# Altium footprint library Bran.PcbLib: 77 footprints (part 3 of 5)
Each footprint in its own frame and in the unit in brackets; x right, y up, seen from the top. Pads: shape width x height; smd on the part's side, far side on the other; paste and mask are expansions set on the pad; w line width, h text height; cw(c..) or ccw(c..) is an arc to the next point about the centre after c.
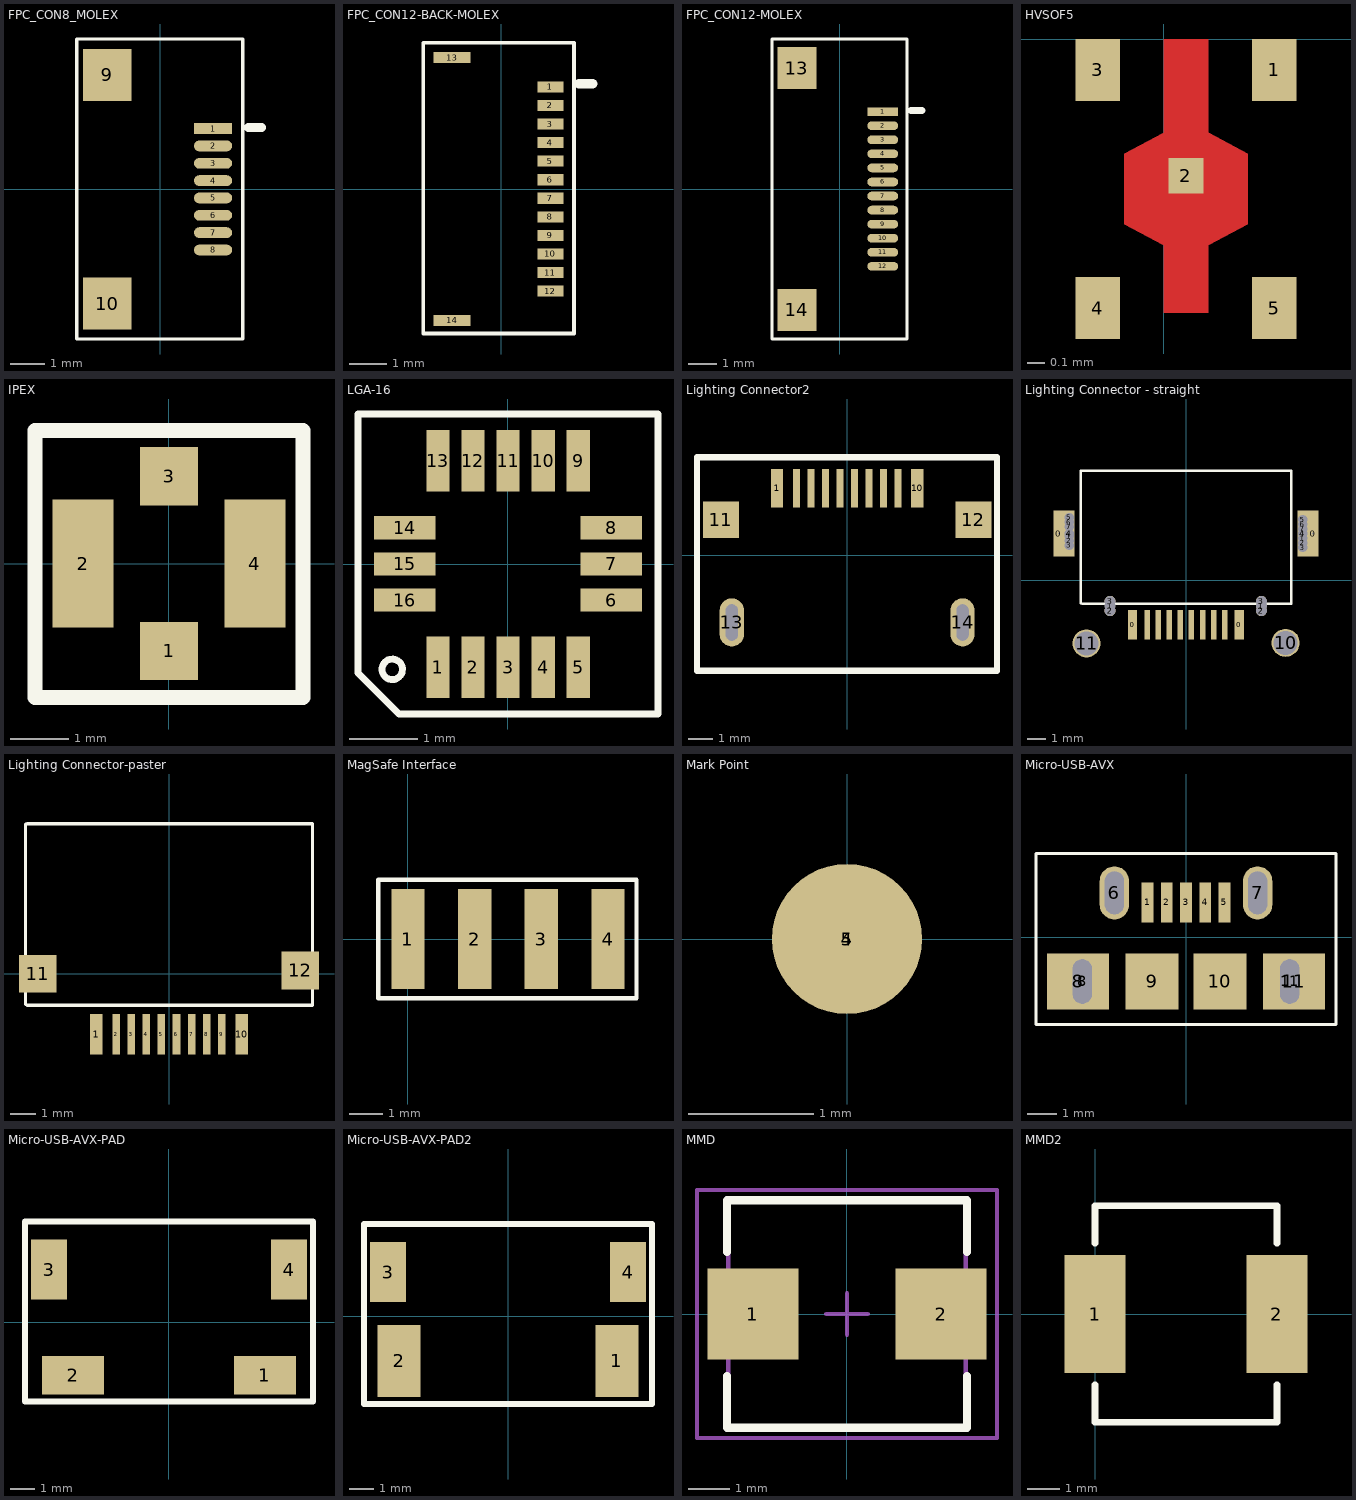
[diagram p2: the footprints below, top view; thin cyan lines are the x and y axes]

## FPC_CON8_MOLEX [mm]
pads (10):
  rect 1.1x0.31 smd: 1(1.525,1.75)
  oval 1.1x0.31 smd: 2(1.525,1.25) 3(1.525,0.75) 4(1.525,0.25) 5(1.525,-0.25) 6(1.525,-0.75) 7(1.525,-1.25) 8(1.525,-1.75)
  rect 1.4x1.5 smd: 9(-1.525,3.3) 10(-1.525,-3.3)
Top Overlay:
  lines w0.1: -2.413,-4.318 2.385,-4.318 2.385,4.334 -2.413,4.334 -2.413,-4.318
  lines w0.254: 2.54,1.778 2.921,1.778

## FPC_CON12-BACK-MOLEX [mm]
pads (14):
  rect 0.7x0.3 smd: 1(1.325,2.75) 2(1.325,2.25) 3(1.325,1.75) 4(1.325,1.25) 5(1.325,0.75) 6(1.325,0.25) 7(1.325,-0.25) 8(1.325,-0.75) 9(1.325,-1.25) 10(1.325,-1.75) 11(1.325,-2.25) 12(1.325,-2.75)
  rect 1x0.3 smd: 13(-1.325,3.54) 14(-1.325,-3.54)
Top Overlay:
  lines w0.1: -2.104,-3.893 1.96,-3.893 1.96,3.937 -2.104,3.937 -2.104,-3.893
  lines w0.254: 2.087,2.838 2.468,2.838
3D body: height 1, standoff 0, extent -1.927,-3.792 1.777,3.792

## FPC_CON12-MOLEX [mm]
pads (14):
  rect 1.1x0.31 smd: 1(1.525,2.75)
  oval 1.1x0.31 smd: 2(1.525,2.25) 3(1.525,1.75) 4(1.525,1.25) 5(1.525,0.75) 6(1.525,0.25) 7(1.525,-0.25) 8(1.525,-0.75) 9(1.525,-1.25) 10(1.525,-1.75) 11(1.525,-2.25) 12(1.525,-2.75)
  rect 1.4x1.5 smd: 13(-1.525,4.3) 14(-1.525,-4.3)
Top Overlay:
  lines w0.1: -2.413,-5.334 2.385,-5.334 2.385,5.334 -2.413,5.334 -2.413,-5.334
  lines w0.254: 2.54,2.794 2.921,2.794

## HVSOF5 [mm]
pads (5):
  rect 0.25x0.35 smd: 1(0.625,-0.175) 3(-0.375,-0.175) 4(-0.375,-1.525) 5(0.625,-1.525)
  rect 0.2x0.2 smd: 2(0.125,-0.775)
Top Layer:
  region: -0.225,-1.05 0,-1.17 0,-1.55 0.25,-1.55 0.25,-1.17 0.475,-1.05 0.475,-0.65 0.254,-0.53 0.25,-0.53 0.25,0 0,0 0,-0.53 -0.225,-0.65
Top Paste:
  region: -0.225,-1.05 0,-1.17 0,-1.55 0.25,-1.55 0.25,-1.17 0.475,-1.05 0.475,-0.65 0.254,-0.53 0.25,-0.53 0.25,0 0,0 0,-0.53 -0.225,-0.65
Top Solder:
  region: -0.225,-1.05 0,-1.17 0,-1.55 0.25,-1.55 0.25,-1.17 0.475,-1.05 0.475,-0.65 0.254,-0.53 0.25,-0.53 0.25,0 0,0 0,-0.53 -0.225,-0.65

## IPEX [mm]
pads (4):
  rect 1x1 smd: 1(0,-1.5) 3(0,1.5)
  rect 1.05x2.2 smd: 2(-1.475,0) 4(1.475,0)
Top Overlay:
  lines w0.254: -2.3,2.286 -2.3,-2.3 2.3,-2.3 2.3,2.286 -2.286,2.286

## LGA-16 [mm]
pads (16):
  rect 0.34x0.9 smd: 1(-1.029,-1.514) 2(-0.514,-1.514) 3(0.001,-1.514) 4(0.516,-1.514) 5(1.031,-1.514) 9(1.031,1.514) 10(0.516,1.514) 11(0.001,1.514) 12(-0.514,1.514) 13(-1.029,1.514)
  rect 0.9x0.34 smd: 6(1.514,-0.529) 7(1.514,0.001) 8(1.514,0.531) 14(-1.514,0.531) 15(-1.514,0.001) 16(-1.514,-0.529)
Top Overlay:
  lines w0.1: -1.549,-1.524 ccw(c-1.698,-1.545) -1.548,-1.545 ; -2.2,-1.6 -2.2,2.2 2.2,2.2 2.2,-2.2 -1.6,-2.2 -2.2,-1.6
3D body: height 1, standoff 0, extent -2.065,-2.065 2.065,2.065

## Lighting Connector2 [mm]
pads (14):
  rect 0.5x1.6 smd: 1(-2.9,2.775) 10(2.9,2.775)
  rect 0.3x1.6 smd: 2(-2.1,2.775) 3(-1.5,2.775) 4(-0.9,2.775) 5(-0.3,2.775) 6(0.3,2.775) 7(0.9,2.775) 8(1.5,2.775) 9(2.1,2.775)
  rect 1.5x1.5 smd: 11(-5.225,1.475) 12(5.225,1.475)
  oval 1x2 hole 0.5 slot 1.5 at 90 deg: 13(-4.775,-2.775) 14(4.775,-2.775)
Top Overlay:
  lines w0.254: -6.214,-4.775 -6.214,4.064 ; -6.2,-4.775 6.2,-4.775 6.2,4.064 -6.2,4.064
3D body: height 0, standoff 0, extent -5.377,-3.877 5.377,-1.673
3D body: height 3.1, standoff 0, extent -6.077,-3.877 6.077,3.677

## Lighting Connector - straight [mm]
pads (34):
  rect 0.6x2.5 hole 0.1: 0(-6.906,2.545) 0(6.906,2.545)
  rect 0.5x1.6 smd: 0(-2.902,-2.417) 0(2.898,-2.417)
  rect 0.3x1.6 smd: 0(-2.102,-2.417) 0(-1.502,-2.417) 0(-0.902,-2.417) 0(-0.302,-2.417) 0(0.298,-2.417) 0(0.898,-2.417) 0(1.498,-2.417) 0(2.098,-2.417)
  round 0.5 hole 0.5: 1(-6.352,2.409) 1(6.352,2.291) 2(-6.352,2.155) 2(6.352,2.037) 3(-6.352,1.901) 3(6.352,1.783) 5(-6.352,3.425) 5(6.352,3.307) 6(-6.352,3.171) 6(6.352,3.053) 7(-6.352,2.917) 7(6.352,2.799)
  oval 0.5x0.6 hole 0.6 unplated: 1(-4.129,-1.393)
  round 0.6 hole 0.6 unplated: 1(4.099,-1.393) 2(-4.129,-1.647) 2(4.099,-1.647) 3(-4.129,-1.139) 3(4.099,-1.139)
  rect 0.6x2.5 hole 0.5: 4(-6.352,2.545) 4(6.352,2.545)
  round 1.524 hole 1.3: 10(5.416,-3.394) 11(-5.409,-3.424)
Top Overlay:
  lines w0.127: -5.721,-1.237 -5.721,5.959 ; -5.654,5.969 5.715,5.969 ; -5.648,-1.266 5.721,-1.266 ; 5.721,-1.237 5.721,5.959

## Lighting Connector-paster [mm]
pads (12):
  rect 0.5x1.6 smd: 1(-2.902,-2.417) 10(2.898,-2.417)
  rect 0.3x1.6 smd: 2(-2.102,-2.417) 3(-1.502,-2.417) 4(-0.902,-2.417) 5(-0.302,-2.417) 6(0.298,-2.417) 7(0.898,-2.417) 8(1.498,-2.417) 9(2.098,-2.417)
  rect 1.5x1.5 smd: 11(-5.225,-0.004) 12(5.225,0.123)
Top Overlay:
  lines w0.127: -5.721,-1.237 -5.721,5.959 ; -5.654,5.969 5.715,5.969 ; -5.648,-1.266 5.721,-1.266 ; 5.721,-1.237 5.721,5.959

## MagSafe Interface [mm]
pads (4):
  rect 1x3 smd: 1(0,0) 2(2,0) 3(4,0) 4(6,0)
Top Overlay:
  lines w0.127: -0.889,-1.778 -0.889,1.778 6.858,1.778 6.858,-1.778 -0.889,-1.778

## Mark Point [mm]
pads (2):
  round 1.2 smd: 4(0,0)
  round 2.4 on Top Solder: 5(0,0)

## Micro-USB-AVX [mm] "厂家：AVX，型号：20-6751"
pads (13):
  rect 0.4x1.35 smd: 1(-1.3,1.175) 2(-0.65,1.175) 3(0,1.175) 4(0.65,1.175) 5(1.3,1.175)
  oval 1x1.8 hole 0.65 slot 1.45 at 90 deg: 6(-2.425,1.5) 7(2.425,1.5)
  rect 2.1x1.9 smd: 8(-3.65,-1.5) 11(3.65,-1.5)
  oval 0.65x1.5 hole 0.65 slot 1.5 at 90 deg: 8(-3.512,-1.5) 11(3.512,-1.5)
  rect 1.8x1.9 smd: 9(-1.15,-1.5) 10(1.15,-1.5)
Top Overlay:
  lines w0.1: -5.08,-2.95 -5.08,2.826 5.08,2.826 5.08,-2.95 -5.08,-2.95
3D body: height 2.9, standoff 0, extent -4.377,-2.677 4.377,2.052

## Micro-USB-AVX-PAD [mm]
pads (4):
  rect 2.6x1.6 smd: 1(4,-2.203) 2(-4,-2.203)
  rect 1.5x2.5 smd: 3(-5,2.204) 4(5,2.204)
Top Overlay:
  lines w0.254: -6,-3.296 -6,4.204 6,4.204 6,-3.296 -6,-3.296
3D body: height 3.9, standoff 0, extent -5.902,-3.148 5.902,4.012

## Micro-USB-AVX-PAD2 [mm]
pads (4):
  rect 1.8x3 smd: 1(4.54,-1.85) 2(-4.54,-1.85)
  rect 1.5x2.5 smd: 3(-5,1.85) 4(5,1.85)
Top Overlay:
  lines w0.254: -6,-3.65 6,-3.65 6,3.85 -6,3.85 -6,-3.65
3D body: height 3.9, standoff 0, extent -5.902,-3.502 5.902,3.659

## MMD [mm] "Molded Capacitor, 2-Leads, Body 5.5x5.2mm, IPC Medium Density"
height 1.8
pads (2):
  rect 2.2x2.2 smd: 1(-2.275,0) 2(2.275,0)
Top Overlay:
  lines w0.2: -2.9,-1.5 -2.9,-2.75 2.9,-2.75 2.9,-1.5 ; -2.9,1.5 -2.9,2.75 2.9,2.75 2.9,1.5
Mechanical 13:
  lines w0.1: -2.87,-2.715 2.87,-2.715 2.87,2.715 -2.87,2.715 -2.87,-2.715
Mechanical 15:
  lines w0.1: -0.5,0 0.5,0 ; 0,-0.5 0,0.5 ; -3.625,-3 3.625,-3 3.625,3 -3.625,3 -3.625,-3
3D body: height 1.8, standoff 0, extent -2.87,-2.715 2.87,2.715

## MMD2 [mm] "Molded Capacitor, 2-Leads, Body 5.5x5.2mm, IPC Medium Density"
height 1.8
pads (2):
  rect 1.85x3.6 smd: 1(0,0) 2(5.55,0)
Top Overlay:
  lines w0.2: 0,-2.159 0,-3.3 5.55,-3.3 5.55,-2.159 ; 0,2.159 0,3.3 5.55,3.3 5.55,2.159